# EAGLE library part RFM69HW (library gps_tracker)
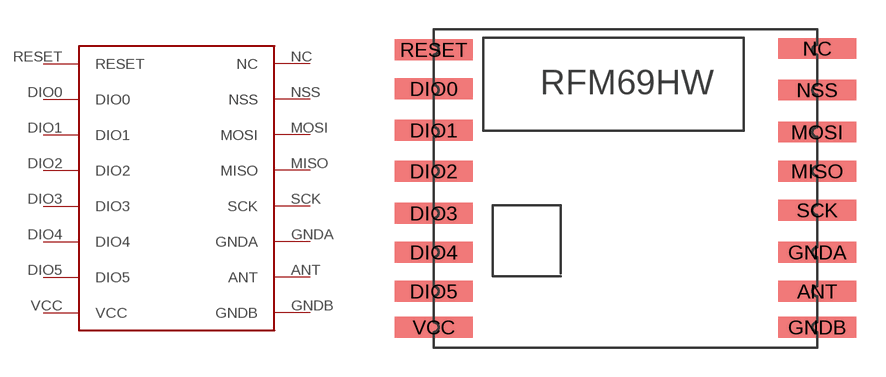
[diagram p2: symbol with the pads of RFM; footprint RFM]

Designator prefix -

## RFM69HW  [RFM]
ANT  ANT
DIO0  DIO0
DIO1  DIO1
DIO2  DIO2
DIO3  DIO3
DIO4  DIO4
DIO5  DIO5
GNDA  GNDA
GNDB  GNDB
MISO  MISO
MOSI  MOSI
NC  NC
NSS  NSS
RESET  RESET
SCK  SCK
VCC  VCC

## Footprint RFM (pad centres in mm)
smd 4 x 1.067: ANT 9.491,-4.731; DIO0 -10.16,5.65; DIO1 -10.16,3.522; DIO2 -10.16,1.427; DIO3 -10.16,-0.731; DIO4 -10.16,-2.731; DIO5 -10.16,-4.731; GNDA 9.491,-2.731; GNDB 9.491,-6.572; MISO 9.491,1.427; MOSI 9.491,3.428; NC 9.491,7.714; NSS 9.491,5.586; RESET -10.16,7.65; SCK 9.491,-0.573; VCC -10.16,-6.572